# EAGLE library part CONNECTOR-9_?_* (library HyTechDevices)
Souriau 9 pin connector 8STA20609SN Catalog <http://www.souriau.co.jp/material/8sta.pdf> Datasheet <https://usa.souriau.com/en-en/system/files/application/downloads/8sta_high_density_datasheet.pdf>
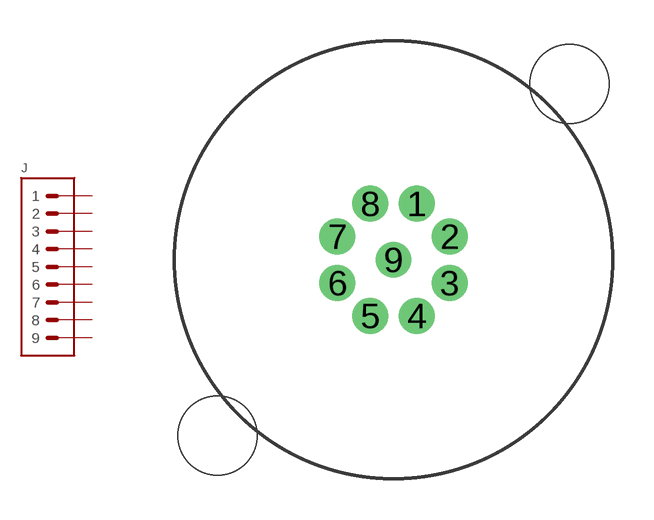
[diagram p53: symbol with the pads of SOURIAU_06-09; footprint SOURIAU_06-09]

Designator prefix J

## CONNECTOR-9__ (MANUFACTURER: Souriau; MPN: 8STA20609SN)  [SOURIAU_06-09]
1  1  pas
2  2  pas
3  3  pas
4  4  pas
5  5  pas
6  6  pas
7  7  pas
8  8  pas
9  9  pas

## Footprint SOURIAU_06-09 (pad centres in mm)
Souriau 9 pin connector 8STA20609SN Catalog <http://www.souriau.co.jp/material/8sta.pdf> Datasheet <https://usa.souriau.com/en-en/system/files/application/downloads/8sta_high_density_datasheet.pdf>
drill 0.8 pad 1.2: 1 0.85,2.05; 2 2.05,0.85; 3 2.05,-0.85; 4 0.85,-2.05; 5 -0.85,-2.05; 6 -2.05,-0.85; 7 -2.05,0.85; 8 -0.85,2.05; 9 0,0
hole 2.9 at 6.435,6.435
hole 2.9 at -6.435,-6.435